# Altium footprint library TjsADLib.PcbLib: 50 footprints (part 4 of 4)
Each footprint in its own frame and in the unit in brackets; x right, y up, seen from the top. Pads: shape width x height; smd on the part's side, far side on the other; paste and mask are expansions set on the pad; w line width, h text height; cw(c..) or ccw(c..) is an arc to the next point about the centre after c.
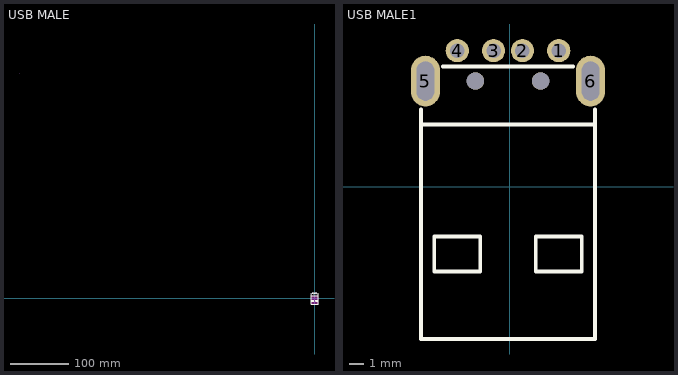
[diagram p3: the footprints below, top view; thin cyan lines are the x and y axes]

## USB MALE [mm]
pads (8):
  round 1.6 hole 1: 1(3.373,9.398) 2(0.873,9.398) 3(-1.127,9.398) 4(-3.627,9.398)
  oval 2x3.5 hole 1.2 slot 2.7 at 90 deg: 5(-5.827,7.298) 6(5.573,7.298)
  round 1.2 hole 1.2 unplated: ""(-2.377,7.298) ""(2.123,7.298)
Top Overlay:
  lines w0.254: -6.127,4.298 5.873,4.298 ; -6.127,5.354 -6.127,-10.502 5.873,-10.502 5.873,5.354 ; -4.622,8.298 4.368,8.298 ; -5.207,-5.842 -5.207,-3.429 -2.032,-3.429 -2.032,-5.842 -5.207,-5.842 ; 1.778,-5.842 1.778,-3.429 4.953,-3.429 4.953,-5.842 1.778,-5.842
Keep-Out Layer:
  board cut-out: -6.223,4.318 5.969,4.318 5.969,-10.668 -6.223,-10.668
Mechanical 15:
  lines w0.003: -507.675,385.046 -507.625,385.096

## USB MALE1 [mm]
pads (8):
  round 1.6 hole 1: 1(3.373,9.398) 2(0.873,9.398) 3(-1.127,9.398) 4(-3.627,9.398)
  oval 2x3.5 hole 1.2 slot 2.7 at 90 deg: 5(-5.827,7.298) 6(5.573,7.298)
  round 1.2 hole 1.2 unplated: ""(-2.377,7.298) ""(2.123,7.298)
Top Overlay:
  lines w0.254: -6.127,4.298 5.873,4.298 ; -6.127,5.354 -6.127,-10.502 5.873,-10.502 5.873,5.354 ; -4.622,8.298 4.368,8.298 ; -5.207,-5.842 -2.032,-5.842 -2.032,-3.429 -5.207,-3.429 -5.207,-5.842 ; 1.778,-5.842 4.953,-5.842 4.953,-3.429 1.778,-3.429 1.778,-5.842